# Altium schematic symbol library MasterLibrary_SCH.SchLib: 28 symbols (part 4 of 4)
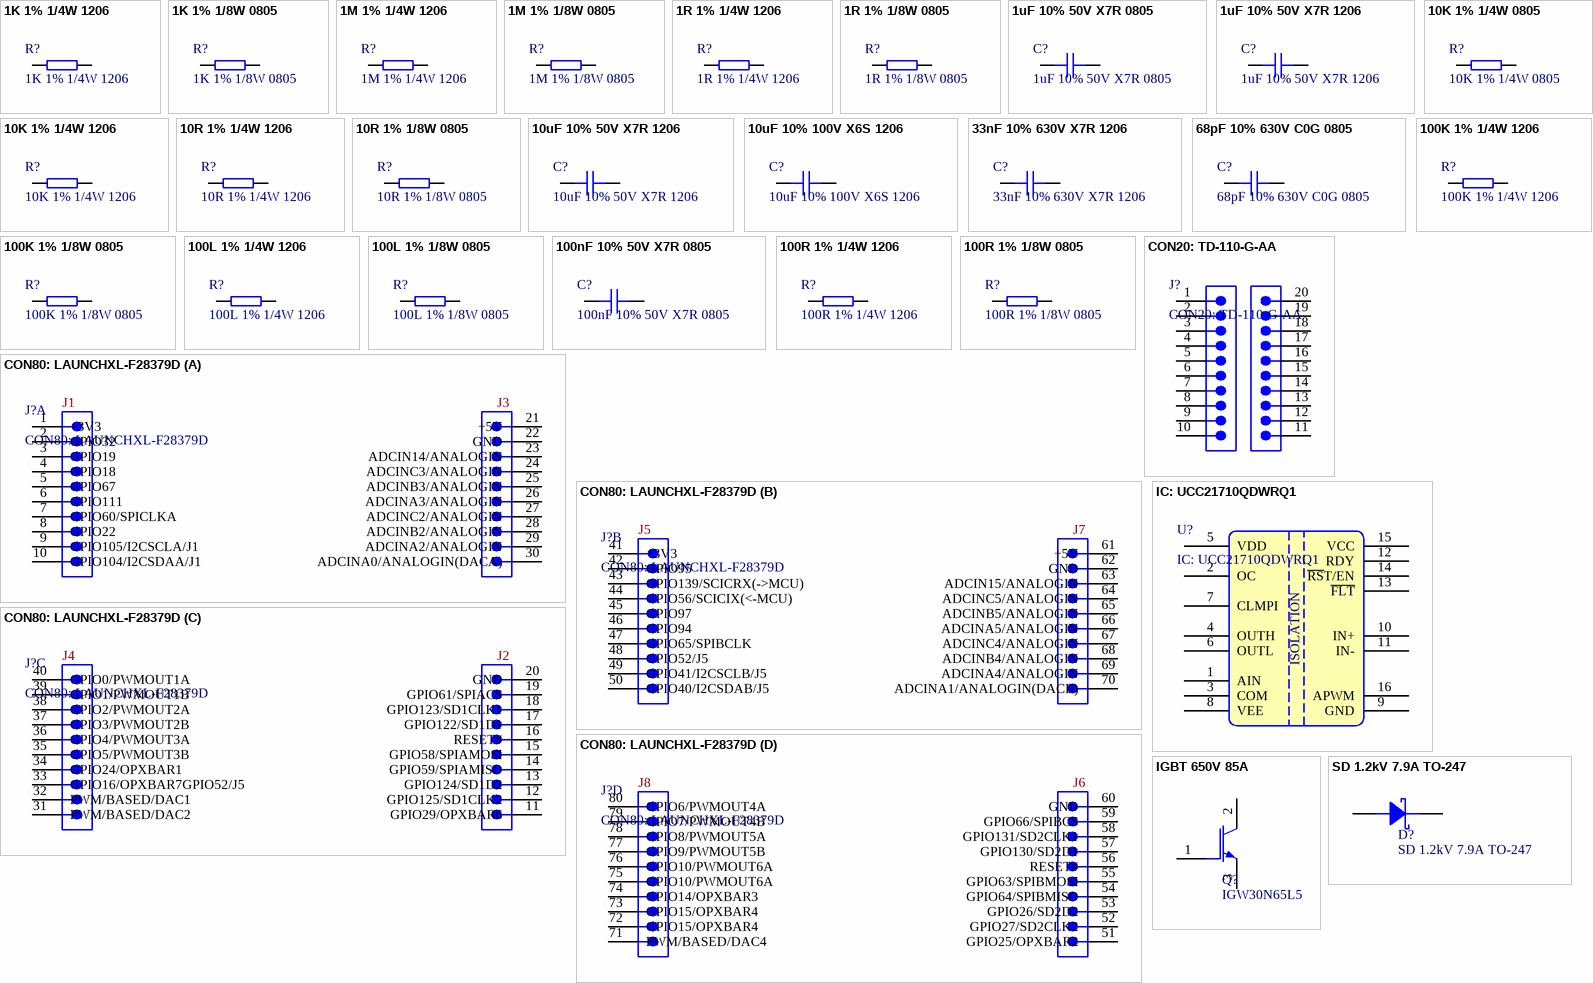
[diagram p3: symbols 1K 1% 1/4W 1206 to SD 1.2kV 7.9A TO-247]

## 100R 1% 1/4W 1206
designator R?
Res Thick Film 1206 100 Ohm 1% 0.25W(1/4W) ±100ppm/C Pad SMD T/R Automotive AEC-Q200; Manufacturer: Stackpole Electronics; Manufacturer Part Number: RMCF1206FT100R; Max Power Dissipation: 125mW; Value: 100Ω; Temperature Coefficient: 100ppm/°C; Voltage Rating: 150V; Supplier: Avnet; Supplier Part Number: RMCF1206FT100R; RoHS: Compliant; Category: Chip SMD Resistors; Stock: 3420000; Pricing: 5000=0.00245, 10000=0.00241, 20000=0.00238, 40000=0.00234, 80000=0.0023 (USD); Case/Package: 1206; Case Code (Imperial): 1206; Case Code (Metric): 3216; China RoHS: Non-Compliant; Composition: Thick Film; Contact Plating: Tin; Depth: 1.25mm; Features: Automotive AEC-Q200; Height: 500µm; Lead Free: Lead Free; Length: 2mm; Lifecycle Status: Production; Max Operating Temperature: 155°C; Military Standard: Not; Min Operating Temperature: -55°C; Mounting Technology: Surface Mount; Number of Terminals: 2; Number of Terminations: 2; Packaging: Cut Tape (CT); Power Dissipation: 125mW; Power Rating: 125mW; Radiation Hardening: No; REACH SVHC: Yes; Schedule B: 8533210045, 8533210045|8533210045, 8533210045|8533210045|8533210045, 8533210045|8533210045|8533210045|8533210045; Tolerance: 1%; Width: 1.25mm; Working Voltage: 150V; ComponentLink1URL: https://datasheet.octopart.com:443/RMCF0805FT10K0-Stackpole-Electronics-datasheet-182148065.pdf?src-supplier=IHS; ComponentLink1Description: https://datasheet.octopart.com:443/RMCF0805FT10K0-Stackpole-Electronics-datasheet-182148065.pdf?src-supplier=IHS; ComponentLink2URL: https://datasheet.octopart.com:443/RMCF0805FT10K0-Stackpole-Electronics-datasheet-12534581.pdf?src-supplier=Upverter; ComponentLink2Description: https://datasheet.octopart.com:443/RMCF0805FT10K0-Stackpole-Electronics-datasheet-12534581.pdf?src-supplier=Upverter; ComponentLink3URL: https://datasheet.octopart.com:443/RMCF0805FT10K0-Stackpole-Electronics-datasheet-28504820.pdf?src-supplier=Upverter; ComponentLink3Description: https://datasheet.octopart.com:443/RMCF0805FT10K0-Stackpole-Electronics-datasheet-28504820.pdf?src-supplier=Upverter; ComponentLink4URL: https://datasheet.octopart.com:443/RMCF0805FT10K0-Stackpole-Electronics-datasheet-12510902.pdf?src-supplier=Upverter; ComponentLink4Description: https://datasheet.octopart.com:443/RMCF0805FT10K0-Stackpole-Electronics-datasheet-12510902.pdf?src-supplier=Upverter; ComponentLink5URL: https://datasheet.octopart.com:443/RMCF0805FT10K0-Stackpole-Electronics-datasheet-141193804.pdf?src-supplier=Stackpole+Electronics; ComponentLink5Description: https://datasheet.octopart.com:443/RMCF0805FT10K0-Stackpole-Electronics-datasheet-141193804.pdf?src-supplier=Stackpole+Electronics; ComponentLink6URL: https://datasheet.octopart.com:443/RMCF0805FT10K0-Stackpole-Electronics-datasheet-62091608.pdf?src-supplier=Stackpole+Electronics; ComponentLink6Description: https://datasheet.octopart.com:443/RMCF0805FT10K0-Stackpole-Electronics-datasheet-62091608.pdf?src-supplier=Stackpole+Electronics; ComponentLink7URL: https://datasheet.octopart.com:443/RMCF0805FT10K0-Stackpole-Electronics-datasheet-10788263.pdf?src-supplier=Stackpole+Electronics; ComponentLink7Description: https://datasheet.octopart.com:443/RMCF0805FT10K0-Stackpole-Electronics-datasheet-10788263.pdf?src-supplier=Stackpole+Electronics; ComponentLink8URL: https://datasheet.octopart.com:443/RMCF0805FT10K0-Stackpole-Electronics-datasheet-154799224.pdf?src-supplier=Master+Electronics; ComponentLink8Description: https://datasheet.octopart.com:443/RMCF0805FT10K0-Stackpole-Electronics-datasheet-154799224.pdf?src-supplier=Master+Electronics; ComponentLink9URL: https://datasheet.octopart.com:443/RMCF0805FT10K0-Stackpole-Electronics-datasheet-11546843.pdf?src-supplier=Arrow+Electronics; ComponentLink9Description: https://datasheet.octopart.com:443/RMCF0805FT10K0-Stackpole-Electronics-datasheet-11546843.pdf?src-supplier=Arrow+Electronics; ComponentLink10URL: https://datasheet.octopart.com:443/RMCF0805FT10K0-Stackpole-Electronics-datasheet-11547379.pdf?src-supplier=Future+Electronics; ComponentLink10Description: https://datasheet.octopart.com:443/RMCF0805FT10K0-Stackpole-Electronics-datasheet-11547379.pdf?src-supplier=Future+Electronics; ComponentLink11URL: https://datasheet.octopart.com:443/RMCF0805FT10K0-Stackpole-Electronics-datasheet-8359789.pdf?src-supplier=Future+Electronics; ComponentLink11Description: https://datasheet.octopart.com:443/RMCF0805FT10K0-Stackpole-Electronics-datasheet-8359789.pdf?src-supplier=Future+Electronics; ComponentLink12URL: https://datasheet.octopart.com:443/RMCF0805FT10K0-Stackpole-Electronics-datasheet-8324226.pdf?src-supplier=Future+Electronics; ComponentLink12Description: https://datasheet.octopart.com:443/RMCF0805FT10K0-Stackpole-Electronics-datasheet-8324226.pdf?src-supplier=Future+Electronics; ComponentLink13URL: https://datasheet.octopart.com:443/RMCF0805FT10K0-Stackpole-Electronics-datasheet-8088878.pdf?src-supplier=Future+Electronics; ComponentLink13Description: https://datasheet.octopart.com:443/RMCF0805FT10K0-Stackpole-Electronics-datasheet-8088878.pdf?src-supplier=Future+Electronics; ComponentLink14URL: https://datasheet.octopart.com:443/RMCF0805FT10K0-Stackpole-Electronics-datasheet-5313682.pdf?src-supplier=Future+Electronics; ComponentLink14Description: https://datasheet.octopart.com:443/RMCF0805FT10K0-Stackpole-Electronics-datasheet-5313682.pdf?src-supplier=Future+Electronics; ComponentLink15URL: http://sigma.octopart.com:80/15940719/materials_sheet/Stackpole-Electronics-RMCF0805FT10K0.pdf?src-supplier=Compliance+Statements; ComponentLink15Description: http://sigma.octopart.com:80/15940719/materials_sheet/Stackpole-Electronics-RMCF0805FT10K0.pdf?src-supplier=Compliance+Statements; ComponentLink16URL: http://sigma.octopart.com:80/141158211/reach_statement/Stackpole-Electronics-RMCF0805FT10K0.pdf?src-supplier=Compliance+Statements; ComponentLink16Description: http://sigma.octopart.com:80/141158211/reach_statement/Stackpole-Electronics-RMCF0805FT10K0.pdf?src-supplier=Compliance+Statements; ComponentLink17URL: http://sigma.octopart.com:80/141158212/rohs_statement/Stackpole-Electronics-RMCF0805FT10K0.pdf?src-supplier=Compliance+Statements; ComponentLink17Description: http://sigma.octopart.com:80/141158212/rohs_statement/Stackpole-Electronics-RMCF0805FT10K0.pdf?src-supplier=Compliance+Statements; ComponentLink18URL: https://datasheet.octopart.com:443/RMCF1206FT10K0-Stackpole-Electronics-datasheet-182148065.pdf?src-supplier=IHS; ComponentLink18Description: https://datasheet.octopart.com:443/RMCF1206FT10K0-Stackpole-Electronics-datasheet-182148065.pdf?src-supplier=IHS; ComponentLink19URL: https://datasheet.octopart.com:443/RMCF1206FT10K0-Stackpole-Electronics-datasheet-141193804.pdf?src-supplier=Master+Electronics; ComponentLink19Description: https://datasheet.octopart.com:443/RMCF1206FT10K0-Stackpole-Electronics-datasheet-141193804.pdf?src-supplier=Master+Electronics; ComponentLink20URL: https://datasheet.octopart.com:443/RMCF1206FT10K0-Stackpole-Electronics-datasheet-189104163.pdf?src-supplier=Master+Electronics; ComponentLink20Description: https://datasheet.octopart.com:443/RMCF1206FT10K0-Stackpole-Electronics-datasheet-189104163.pdf?src-supplier=Master+Electronics; ComponentLink21URL: https://datasheet.octopart.com:443/RMCF1206FT10K0-Stackpole-Electronics-datasheet-116606903.pdf?src-supplier=Master+Electronics; ComponentLink21Description: https://datasheet.octopart.com:443/RMCF1206FT10K0-Stackpole-Electronics-datasheet-116606903.pdf?src-supplier=Master+Electronics; ComponentLink22URL: https://datasheet.octopart.com:443/RMCF1206FT10K0-Stackpole-Electronics-datasheet-62091608.pdf?src-supplier=Upverter; ComponentLink22Description: https://datasheet.octopart.com:443/RMCF1206FT10K0-Stackpole-Electronics-datasheet-62091608.pdf?src-supplier=Upverter; ComponentLink23URL: https://datasheet.octopart.com:443/RMCF1206FT10K0-Stackpole-Electronics-datasheet-28504820.pdf?src-supplier=Upverter; ComponentLink23Description: https://datasheet.octopart.com:443/RMCF1206FT10K0-Stackpole-Electronics-datasheet-28504820.pdf?src-supplier=Upverter; ComponentLink24URL: https://datasheet.octopart.com:443/RMCF1206FT10K0-Stackpole-Electronics-datasheet-12534581.pdf?src-supplier=Stackpole+Electronics; ComponentLink24Description: https://datasheet.octopart.com:443/RMCF1206FT10K0-Stackpole-Electronics-datasheet-12534581.pdf?src-supplier=Stackpole+Electronics; ComponentLink25URL: https://datasheet.octopart.com:443/RMCF1206FT10K0-Stackpole-Electronics-datasheet-10788263.pdf?src-supplier=Stackpole+Electronics; ComponentLink25Description: https://datasheet.octopart.com:443/RMCF1206FT10K0-Stackpole-Electronics-datasheet-10788263.pdf?src-supplier=Stackpole+Electronics; ComponentLink26URL: https://datasheet.octopart.com:443/RMCF1206FT10K0-Stackpole-Electronics-datasheet-11546843.pdf?src-supplier=Arrow+Electronics; ComponentLink26Description: https://datasheet.octopart.com:443/RMCF1206FT10K0-Stackpole-Electronics-datasheet-11546843.pdf?src-supplier=Arrow+Electronics; ComponentLink27URL: https://datasheet.octopart.com:443/RMCF1206FT10K0-Stackpole-Electronics-datasheet-11547379.pdf?src-supplier=Future+Electronics; ComponentLink27Description: https://datasheet.octopart.com:443/RMCF1206FT10K0-Stackpole-Electronics-datasheet-11547379.pdf?src-supplier=Future+Electronics; ComponentLink28URL: https://datasheet.octopart.com:443/RMCF1206FT10K0-Stackpole-Electronics-datasheet-8359789.pdf?src-supplier=Future+Electronics; ComponentLink28Description: https://datasheet.octopart.com:443/RMCF1206FT10K0-Stackpole-Electronics-datasheet-8359789.pdf?src-supplier=Future+Electronics; ComponentLink29URL: https://datasheet.octopart.com:443/RMCF1206FT10K0-Stackpole-Electronics-datasheet-8324226.pdf?src-supplier=Future+Electronics; ComponentLink29Description: https://datasheet.octopart.com:443/RMCF1206FT10K0-Stackpole-Electronics-datasheet-8324226.pdf?src-supplier=Future+Electronics; ComponentLink30URL: http://sigma.octopart.com:80/15940719/materials_sheet/Stackpole-Electronics-RMCF1206FT10K0.pdf?src-supplier=Compliance+Statements; ComponentLink30Description: http://sigma.octopart.com:80/15940719/materials_sheet/Stackpole-Electronics-RMCF1206FT10K0.pdf?src-supplier=Compliance+Statements; ComponentLink31URL: http://sigma.octopart.com:80/141158212/rohs_statement/Stackpole-Electronics-RMCF1206FT10K0.pdf?src-supplier=Compliance+Statements; ComponentLink31Description: http://sigma.octopart.com:80/141158212/rohs_statement/Stackpole-Electronics-RMCF1206FT10K0.pdf?src-supplier=Compliance+Statements; ComponentLink32URL: http://sigma.octopart.com:80/141158211/reach_statement/Stackpole-Electronics-RMCF1206FT10K0.pdf?src-supplier=Compliance+Statements; ComponentLink32Description: http://sigma.octopart.com:80/141158211/reach_statement/Stackpole-Electronics-RMCF1206FT10K0.pdf?src-supplier=Compliance+Statements
footprint RESC3116X06N
pins: 1, 2

## 100R 1% 1/8W 0805
designator R?
Res Thick Film 0805 100 Ohm 1% 0.125W ±100ppm/°C Molded SMD Paper T/R; Manufacturer: Stackpole Electronics; Manufacturer Part Number: RMCF0805FT100R; Max Power Dissipation: 125mW; Value: 100Ω; Voltage Rating: 150V; Supplier: Avnet; Supplier Part Number: RMCF0805FT100R; RoHS: Compliant; Category: Chip SMD Resistors; Stock: 3420000; Pricing: 5000=0.00245, 10000=0.00241, 20000=0.00238, 40000=0.00234, 80000=0.0023 (USD); Case/Package: 0805; Case Code (Imperial): 0805; Case Code (Metric): 2012; China RoHS: Non-Compliant; Composition: Thick Film; Contact Plating: Tin; Depth: 1.25mm; Features: Automotive AEC-Q200; Height: 500µm; Lead Free: Lead Free; Length: 2mm; Lifecycle Status: Production; Max Operating Temperature: 155°C; Military Standard: Not; Min Operating Temperature: -55°C; Mounting Technology: Surface Mount; Number of Terminals: 2; Number of Terminations: 2; Packaging: Cut Tape (CT); Power Dissipation: 125mW; Power Rating: 125mW; Radiation Hardening: No; REACH SVHC: Yes; Schedule B: 8533210045, 8533210045|8533210045, 8533210045|8533210045|8533210045, 8533210045|8533210045|8533210045|8533210045; Temperature Coefficient: 100ppm/°C; Tolerance: 1%; Width: 1.25mm; Working Voltage: 150V; ComponentLink1URL: https://datasheet.octopart.com:443/RMCF0805FT10K0-Stackpole-Electronics-datasheet-182148065.pdf?src-supplier=IHS; ComponentLink1Description: https://datasheet.octopart.com:443/RMCF0805FT10K0-Stackpole-Electronics-datasheet-182148065.pdf?src-supplier=IHS; ComponentLink2URL: https://datasheet.octopart.com:443/RMCF0805FT10K0-Stackpole-Electronics-datasheet-12534581.pdf?src-supplier=Upverter; ComponentLink2Description: https://datasheet.octopart.com:443/RMCF0805FT10K0-Stackpole-Electronics-datasheet-12534581.pdf?src-supplier=Upverter; ComponentLink3URL: https://datasheet.octopart.com:443/RMCF0805FT10K0-Stackpole-Electronics-datasheet-28504820.pdf?src-supplier=Upverter; ComponentLink3Description: https://datasheet.octopart.com:443/RMCF0805FT10K0-Stackpole-Electronics-datasheet-28504820.pdf?src-supplier=Upverter; ComponentLink4URL: https://datasheet.octopart.com:443/RMCF0805FT10K0-Stackpole-Electronics-datasheet-12510902.pdf?src-supplier=Upverter; ComponentLink4Description: https://datasheet.octopart.com:443/RMCF0805FT10K0-Stackpole-Electronics-datasheet-12510902.pdf?src-supplier=Upverter; ComponentLink5URL: https://datasheet.octopart.com:443/RMCF0805FT10K0-Stackpole-Electronics-datasheet-141193804.pdf?src-supplier=Stackpole+Electronics; ComponentLink5Description: https://datasheet.octopart.com:443/RMCF0805FT10K0-Stackpole-Electronics-datasheet-141193804.pdf?src-supplier=Stackpole+Electronics; ComponentLink6URL: https://datasheet.octopart.com:443/RMCF0805FT10K0-Stackpole-Electronics-datasheet-62091608.pdf?src-supplier=Stackpole+Electronics; ComponentLink6Description: https://datasheet.octopart.com:443/RMCF0805FT10K0-Stackpole-Electronics-datasheet-62091608.pdf?src-supplier=Stackpole+Electronics; ComponentLink7URL: https://datasheet.octopart.com:443/RMCF0805FT10K0-Stackpole-Electronics-datasheet-10788263.pdf?src-supplier=Stackpole+Electronics; ComponentLink7Description: https://datasheet.octopart.com:443/RMCF0805FT10K0-Stackpole-Electronics-datasheet-10788263.pdf?src-supplier=Stackpole+Electronics; ComponentLink8URL: https://datasheet.octopart.com:443/RMCF0805FT10K0-Stackpole-Electronics-datasheet-154799224.pdf?src-supplier=Master+Electronics; ComponentLink8Description: https://datasheet.octopart.com:443/RMCF0805FT10K0-Stackpole-Electronics-datasheet-154799224.pdf?src-supplier=Master+Electronics; ComponentLink9URL: https://datasheet.octopart.com:443/RMCF0805FT10K0-Stackpole-Electronics-datasheet-11546843.pdf?src-supplier=Arrow+Electronics; ComponentLink9Description: https://datasheet.octopart.com:443/RMCF0805FT10K0-Stackpole-Electronics-datasheet-11546843.pdf?src-supplier=Arrow+Electronics; ComponentLink10URL: https://datasheet.octopart.com:443/RMCF0805FT10K0-Stackpole-Electronics-datasheet-11547379.pdf?src-supplier=Future+Electronics; ComponentLink10Description: https://datasheet.octopart.com:443/RMCF0805FT10K0-Stackpole-Electronics-datasheet-11547379.pdf?src-supplier=Future+Electronics; ComponentLink11URL: https://datasheet.octopart.com:443/RMCF0805FT10K0-Stackpole-Electronics-datasheet-8359789.pdf?src-supplier=Future+Electronics; ComponentLink11Description: https://datasheet.octopart.com:443/RMCF0805FT10K0-Stackpole-Electronics-datasheet-8359789.pdf?src-supplier=Future+Electronics; ComponentLink12URL: https://datasheet.octopart.com:443/RMCF0805FT10K0-Stackpole-Electronics-datasheet-8324226.pdf?src-supplier=Future+Electronics; ComponentLink12Description: https://datasheet.octopart.com:443/RMCF0805FT10K0-Stackpole-Electronics-datasheet-8324226.pdf?src-supplier=Future+Electronics; ComponentLink13URL: https://datasheet.octopart.com:443/RMCF0805FT10K0-Stackpole-Electronics-datasheet-8088878.pdf?src-supplier=Future+Electronics; ComponentLink13Description: https://datasheet.octopart.com:443/RMCF0805FT10K0-Stackpole-Electronics-datasheet-8088878.pdf?src-supplier=Future+Electronics; ComponentLink14URL: https://datasheet.octopart.com:443/RMCF0805FT10K0-Stackpole-Electronics-datasheet-5313682.pdf?src-supplier=Future+Electronics; ComponentLink14Description: https://datasheet.octopart.com:443/RMCF0805FT10K0-Stackpole-Electronics-datasheet-5313682.pdf?src-supplier=Future+Electronics; ComponentLink15URL: http://sigma.octopart.com:80/15940719/materials_sheet/Stackpole-Electronics-RMCF0805FT10K0.pdf?src-supplier=Compliance+Statements; ComponentLink15Description: http://sigma.octopart.com:80/15940719/materials_sheet/Stackpole-Electronics-RMCF0805FT10K0.pdf?src-supplier=Compliance+Statements; ComponentLink16URL: http://sigma.octopart.com:80/141158211/reach_statement/Stackpole-Electronics-RMCF0805FT10K0.pdf?src-supplier=Compliance+Statements; ComponentLink16Description: http://sigma.octopart.com:80/141158211/reach_statement/Stackpole-Electronics-RMCF0805FT10K0.pdf?src-supplier=Compliance+Statements; ComponentLink17URL: http://sigma.octopart.com:80/141158212/rohs_statement/Stackpole-Electronics-RMCF0805FT10K0.pdf?src-supplier=Compliance+Statements; ComponentLink17Description: http://sigma.octopart.com:80/141158212/rohs_statement/Stackpole-Electronics-RMCF0805FT10K0.pdf?src-supplier=Compliance+Statements
footprint RESC2012X05N
pins: 1, 2

## CON20: TD-110-G-AA
designator J?  (mechanical)
Pin Header, Precision Machined Terminal, Board-to-Board, 2.54 mm, 2 Rows, 20 Contacts, Through Hole; Manufacturer: Samtec; Manufacturer Lifecycle Status: PRODUCTION; Number of Contacts: 20; Supplier: DigiKey; Supplier Part Number: TD-110-G-AA-ND; Manufacturer Part Number: TD-110-G-AA; RoHS: Compliant; Category: Headers and Wire Housings; Stock: 586; Pricing: 1=4.66, 25=4.21, 50=3.92, 100=3.73, 500=2.96, 1000=2.70002, 2500=2.6604 (USD); Contact Material: Gold, Nickel; Contact Plating: Gold; Lifecycle Status: Production; Max Operating Temperature: 125°C; Min Operating Temperature: -55°C; Mounting Technology: Through Hole; Number of Rows: 2; REACH SVHC: No; Termination: Through Hole; ComponentLink1URL: https://datasheet.octopart.com:443/TD-110-G-AA-Samtec-datasheet-158277479.pdf?src-supplier=Upverter; ComponentLink1Description: https://datasheet.octopart.com:443/TD-110-G-AA-Samtec-datasheet-158277479.pdf?src-supplier=Upverter; ComponentLink2URL: https://sigma.octopart.com:443/138897476/technical_drawing/Samtec-TD-110-G-AA.pdf?src-supplier=Upverter; ComponentLink2Description: https://sigma.octopart.com:443/138897476/technical_drawing/Samtec-TD-110-G-AA.pdf?src-supplier=Upverter; ComponentLink3URL: https://datasheet.octopart.com:443/TD-110-G-AA-Samtec-datasheet-97310231.pdf?src-supplier=Samtec; ComponentLink3Description: https://datasheet.octopart.com:443/TD-110-G-AA-Samtec-datasheet-97310231.pdf?src-supplier=Samtec; ComponentLink4URL: https://datasheet.octopart.com:443/TD-110-G-AA-Samtec-datasheet-150856305.pdf?src-supplier=Sager+Electronics; ComponentLink4Description: https://datasheet.octopart.com:443/TD-110-G-AA-Samtec-datasheet-150856305.pdf?src-supplier=Sager+Electronics; ComponentLink5URL: https://datasheet.octopart.com:443/TD-110-G-AA-Samtec-datasheet-129019458.pdf?src-supplier=Sager+Electronics; ComponentLink5Description: https://datasheet.octopart.com:443/TD-110-G-AA-Samtec-datasheet-129019458.pdf?src-supplier=Sager+Electronics; ComponentLink6URL: https://datasheet.octopart.com:443/TD-110-G-AA-Samtec-datasheet-179090728.pdf?src-supplier=Sager+Electronics; ComponentLink6Description: https://datasheet.octopart.com:443/TD-110-G-AA-Samtec-datasheet-179090728.pdf?src-supplier=Sager+Electronics; ComponentLink7URL: https://datasheet.octopart.com:443/TD-110-G-AA-Samtec-datasheet-41643126.pdf?src-supplier=Farnell; ComponentLink7Description: https://datasheet.octopart.com:443/TD-110-G-AA-Samtec-datasheet-41643126.pdf?src-supplier=Farnell; ComponentLink8URL: https://datasheet.octopart.com:443/TD-110-G-AA-Samtec-datasheet-37173861.pdf?src-supplier=Farnell; ComponentLink8Description: https://datasheet.octopart.com:443/TD-110-G-AA-Samtec-datasheet-37173861.pdf?src-supplier=Farnell; ComponentLink9URL: https://datasheet.octopart.com:443/TD-110-G-AA-Samtec-datasheet-8466599.pdf?src-supplier=Farnell; ComponentLink9Description: https://datasheet.octopart.com:443/TD-110-G-AA-Samtec-datasheet-8466599.pdf?src-supplier=Farnell; ComponentLink10URL: https://datasheet.octopart.com:443/TD-110-G-AA-Samtec-datasheet-21214653.pdf?src-supplier=Newark; ComponentLink10Description: https://datasheet.octopart.com:443/TD-110-G-AA-Samtec-datasheet-21214653.pdf?src-supplier=Newark
footprint CON20: TD-110-G-AA (.100" DOUBLE ROW SCREW MACHINE T)
pins: 1, 2, 3, 4, 5, 6, 7, 8, 9, 10, 11 70, 12, 13, 14, 15, 16, 17, 18, 19, 20

## CON80: LAUNCHXL-F28379D
designator J?
F28379D LaunchPad™ development kit for C2000™ Delfino™ MCU; Manufacturer: Texas Instruments; Manufacturer Lifecycle Status: ACTIVE; Core Architecture: C2000; Number of Bits: 32; Supplier: DigiKey; Supplier Part Number: 296-46713-ND; Manufacturer Part Number: LAUNCHXL-F28379D; Category: DSPs - Digital Signal Processors; Pricing: 1=46.8 (USD); Lifecycle Status: Production; Pins: 0; REACH SVHC: No; ComponentLink1URL: https://octopart.com:443/opatz8j6/c1?t=_qCjX2Wo53PZarO6BjGz1pzxvZLeCrbbVJACmNqqTvR3TEBVwYoGW-DXq5l11NPCyEyQmG2wH9P15DbxEwR5ZZHsyk33RBSXwUdEtCa7jNxIhSrryjNLEF-Vgre1piZzQz56aD2MK6QuEQpUtDRfErQs-_Fz2k06mrjKwHn2nJAT_YV2HxfigPUyr5srGnEy9lLlrNqGpcCNex5yYxUMkQXiFlqqbITrV8bFvInxDQ88sUGODQNtS64O8hVEwNdGa20kbIjdoqOBoaE1JHzrO901WwG08850-S2bXz9NSqERxo83_Q49v-k_oL6cPW0CHjrP4NMWOrNhAcehFalWX6jDFn3RYJBbH4wBv6PGCMA2lz1wT9CaKpwnDvEQJ5WJVjDawH1R7TR419iNQ7OBATXWz7I&src-supplier=Texas+Instruments; ComponentLink1Description: https://octopart.com:443/opatz8j6/c1?t=_qCjX2Wo53PZarO6BjGz1pzxvZLeCrbbVJACmNqqTvR3TEBVwYoGW-DXq5l11NPCyEyQmG2wH9P15DbxEwR5ZZHsyk33RBSXwUdEtCa7jNxIhSrryjNLEF-Vgre1piZzQz56aD2MK6QuEQpUtDRfErQs-_Fz2k06mrjKwHn2nJAT_YV2HxfigPUyr5srGnEy9lLlrNqGpcCNex5yYxUMkQXiFlqqbITrV8bFvInxDQ88sUGODQNtS64O8hVEwNdGa20kbIjdoqOBoaE1JHzrO901WwG08850-S2bXz9NSqERxo83_Q49v-k_oL6cPW0CHjrP4NMWOrNhAcehFalWX6jDFn3RYJBbH4wBv6PGCMA2lz1wT9CaKpwnDvEQJ5WJVjDawH1R7TR419iNQ7OBATXWz7I&src-supplier=Texas+Instruments; ComponentLink2URL: https://datasheet.octopart.com:443/LAUNCHXL-F28379D-Texas-Instruments-datasheet-152741484.pdf?src-supplier=ODG+(Origin+Data+Global); ComponentLink2Description: https://datasheet.octopart.com:443/LAUNCHXL-F28379D-Texas-Instruments-datasheet-152741484.pdf?src-supplier=ODG+(Origin+Data+Global); ComponentLink3URL: https://datasheet.octopart.com:443/LAUNCHXL-F28379D-Texas-Instruments-datasheet-67294821.pdf?src-supplier=element14+APAC; ComponentLink3Description: https://datasheet.octopart.com:443/LAUNCHXL-F28379D-Texas-Instruments-datasheet-67294821.pdf?src-supplier=element14+APAC; ComponentLink4URL: https://datasheet.octopart.com:443/LAUNCHXL-F28379D-Texas-Instruments-datasheet-103777603.pdf?src-supplier=TME; ComponentLink4Description: https://datasheet.octopart.com:443/LAUNCHXL-F28379D-Texas-Instruments-datasheet-103777603.pdf?src-supplier=TME; ComponentLink5URL: http://sigma.octopart.com:80/reach_statement/Texas-Instruments-company-64.pdf?src-supplier=Compliance+Statements; ComponentLink5Description: http://sigma.octopart.com:80/reach_statement/Texas-Instruments-company-64.pdf?src-supplier=Compliance+Statements; ComponentLink6URL: http://sigma.octopart.com:80/conflict_mineral_statement/Texas-Instruments-company-63.pdf?src-supplier=Compliance+Statements; ComponentLink6Description: http://sigma.octopart.com:80/conflict_mineral_statement/Texas-Instruments-company-63.pdf?src-supplier=Compliance+Statements; ComponentLink7URL: https://octopart.com:443/opatz8j6/c1?t=vmM5mUkauSidLfiIfngj-A2eh6SjcyeYQ_18RxJ-XgRT5PFLOln341s3Da68ti8m6yMC8JyHE5YCQ8oxmljwW8O_iXgryuhhxmjCmpHtdr4VDwYtt48MgbKj-slNB3Nj0mMH04CuEmFmw_fUmAswlWbCu5ZMAg5-39dPO4IMZ0IkEkvJqqV3lhWtLIq7mSnDMHN61-x5vEZotwGXpDkhXVPdiQUwVwsuDPl99fprXnUSUtNA7saaZFRkXjg1cuiRBuIcQzdWjl70NXHJ-qE7RXDui7Y0LCAu6IeHkA&src-supplier=Compliance+Statements; ComponentLink7Description: https://octopart.com:443/opatz8j6/c1?t=vmM5mUkauSidLfiIfngj-A2eh6SjcyeYQ_18RxJ-XgRT5PFLOln341s3Da68ti8m6yMC8JyHE5YCQ8oxmljwW8O_iXgryuhhxmjCmpHtdr4VDwYtt48MgbKj-slNB3Nj0mMH04CuEmFmw_fUmAswlWbCu5ZMAg5-39dPO4IMZ0IkEkvJqqV3lhWtLIq7mSnDMHN61-x5vEZotwGXpDkhXVPdiQUwVwsuDPl99fprXnUSUtNA7saaZFRkXjg1cuiRBuIcQzdWjl70NXHJ-qE7RXDui7Y0LCAu6IeHkA&src-supplier=Compliance+Statements; Quantity: 4
footprint LAUNCHXL-F28379D
part A pins: 1 +3V3, 2 GPIO32, 3 GPIO19, 4 GPIO18, 5 GPIO67, 6 GPIO111, 7 GPIO60/SPICLKA, 8 GPIO22, 9 GPIO105/I2CSCLA/J1, 10 GPIO104/I2CSDAA/J1, 21 +5V, 22 GND, 23 ADCIN14/ANALOGIN, 24 ADCINC3/ANALOGIN, 25 ADCINB3/ANALOGIN, 26 ADCINA3/ANALOGIN, 27 ADCINC2/ANALOGIN, 28 ADCINB2/ANALOGIN, 29 ADCINA2/ANALOGIN, 30 ADCINA0/ANALOGIN(DACA)
part B pins: 41 +3V3, 42 GPIO95, 43 GPIO139/SCICRX(->MCU), 44 GPIO56/SCICIX(<-MCU), 45 GPIO97, 46 GPIO94, 47 GPIO65/SPIBCLK, 48 GPIO52/J5, 49 GPIO41/I2CSCLB/J5, 50 GPIO40/I2CSDAB/J5, 61 +5V, 62 GND, 63 ADCIN15/ANALOGIN, 64 ADCINC5/ANALOGIN, 65 ADCINB5/ANALOGIN, 66 ADCINA5/ANALOGIN, 67 ADCINC4/ANALOGIN, 68 ADCINB4/ANALOGIN, 69 ADCINA4/ANALOGIN, 70 ADCINA1/ANALOGIN(DACB)
part C pins: 11 GPIO29/OPXBAR6, 12 GPIO125/SD1CLK2, 13 GPIO124/SD1D2, 14 GPIO59/SPIAMISO, 15 GPIO58/SPIAMOSI, 16 RESET#, 17 GPIO122/SD1D1, 18 GPIO123/SD1CLK1, 19 GPIO61/SPIACS, 20 GND, 31 PWM/BASED/DAC2, 32 PWM/BASED/DAC1, 33 GPIO16/OPXBAR7GPIO52/J5, 34 GPIO24/OPXBAR1, 35 GPIO5/PWMOUT3B, 36 GPIO4/PWMOUT3A, 37 GPIO3/PWMOUT2B, 38 GPIO2/PWMOUT2A, 39 GPIO1/PWMOUT1B, 40 GPIO0/PWMOUT1A
part D pins: 51 GPIO25/OPXBAR2, 52 GPIO27/SD2CLK2, 53 GPIO26/SD2D2, 54 GPIO64/SPIBMISO, 55 GPIO63/SPIBMOSI, 56 RESET#, 57 GPIO130/SD2D1, 58 GPIO131/SD2CLK1, 59 GPIO66/SPIBCS, 60 GND, 71 PWM/BASED/DAC4, 72 GPIO15/OPXBAR4, 73 GPIO15/OPXBAR4, 74 GPIO14/OPXBAR3, 75 GPIO10/PWMOUT6A, 76 GPIO10/PWMOUT6A, 77 GPIO9/PWMOUT5B, 78 GPIO8/PWMOUT5A, 79 GPIO7/PWMOUT4B, 80 GPIO6/PWMOUT4A
part A text: J1; J3
part B text: J5; J7
part C text: J4; J2
part D text: J8; J6

## IC: UCC21710QDWRQ1
designator U?
Gate Driver Single Channel for SiC/IGBT 10A 5.7kV 16-Pin SOIC T/R; Manufacturer: Texas Instruments; Manufacturer Lifecycle Status: ACTIVE; Supplier: DigiKey; Supplier Part Number: 296-UCC21710QDWRQ1CT-ND; Manufacturer Part Number: UCC21710QDWRQ1; RoHS: Compliant; Category: Integrated Circuits (ICs); Stock: 2904; Pricing: 1=7,06, 10=5,443, 25=5,0392, 100=4,595, 250=4,38324, 500=4,2556, 1000=4,15057 (USD); Case/Package: SOIC; Height: 2.65mm; Length: 10.3mm; Lifecycle Status: Production; Pins: 16; Schedule B: 8542390000, 8542390000|8542390000|8542390000|8542390000|8542390000; Thickness: 2.35mm; Width: 7.5mm; ComponentLink1URL: https://octopart.com:443/opatz8j6/c1?t=2Ae8CYxUiKwwUnaAX1oXuDSPwO_i-MIfE4deJ_XvXtHVTVYVZx9tgFB0fYlzg1x4Sa1FF-SXVXU5tzE2ofxkzrGr1RLbzye29Caa-fQ0ONbIHExv9lM6c6k7X9PVt_IVgvBE_C6n-D2BVECotO-ctuGrZih5w-ukil919FlMD0qnLFwI1OTZtrTHd9y-8_dLh9JFKe0IM-hKQeF-gA00x0rc95AVO7XLhrrNps-hMPC4fMVTmdk_JUX9ambxvphSmuH9qLML26GYMMgQ3Yml-wiDg2USMR9Wdws-ZC-Hcutrtwa5BnM5chwDXC9-NOxHlBmk1zJEqMy2MURJlK19_PFoIfpMasCg-KFUNJdrYzD3H6Zmvyob5xjvNjRz-JVhWAt5jAg8iYMI&src-supplier=Texas+Instruments; ComponentLink1Description: https://octopart.com:443/opatz8j6/c1?t=2Ae8CYxUiKwwUnaAX1oXuDSPwO_i-MIfE4deJ_XvXtHVTVYVZx9tgFB0fYlzg1x4Sa1FF-SXVXU5tzE2ofxkzrGr1RLbzye29Caa-fQ0ONbIHExv9lM6c6k7X9PVt_IVgvBE_C6n-D2BVECotO-ctuGrZih5w-ukil919FlMD0qnLFwI1OTZtrTHd9y-8_dLh9JFKe0IM-hKQeF-gA00x0rc95AVO7XLhrrNps-hMPC4fMVTmdk_JUX9ambxvphSmuH9qLML26GYMMgQ3Yml-wiDg2USMR9Wdws-ZC-Hcutrtwa5BnM5chwDXC9-NOxHlBmk1zJEqMy2MURJlK19_PFoIfpMasCg-KFUNJdrYzD3H6Zmvyob5xjvNjRz-JVhWAt5jAg8iYMI&src-supplier=Texas+Instruments; ComponentLink2URL: https://datasheet.octopart.com:443/UCC21710QDWRQ1-Texas-Instruments-datasheet-184244563.pdf?src-supplier=LCSC; ComponentLink2Description: https://datasheet.octopart.com:443/UCC21710QDWRQ1-Texas-Instruments-datasheet-184244563.pdf?src-supplier=LCSC; ComponentLink3URL: http://sigma.octopart.com:80/reach_statement/Texas-Instruments-company-64.pdf?src-supplier=Compliance+Statements; ComponentLink3Description: http://sigma.octopart.com:80/reach_statement/Texas-Instruments-company-64.pdf?src-supplier=Compliance+Statements; ComponentLink4URL: http://sigma.octopart.com:80/conflict_mineral_statement/Texas-Instruments-company-63.pdf?src-supplier=Compliance+Statements; ComponentLink4Description: http://sigma.octopart.com:80/conflict_mineral_statement/Texas-Instruments-company-63.pdf?src-supplier=Compliance+Statements
footprint SOIC127P1030X265-16N (SOIC, 16-Leads, Body 10,30x7,50mm, Pitch 1,27mm, IPC Medium Density)
pins: 1 AIN, 2 OC, 3 COM, 4 OUTH, 5 VDD, 6 OUTL, 7 CLMPI, 8 VEE, 9 GND, 10 IN+, 11 IN-, 12 RDY, 13 ~{FLT}, 14 ~{RS}T/EN, 15 VCC, 16 APWM
text: ISOLATION

## IGBT 650V 85A
designator Q?, comment IGW30N65L5
650V, 85A, TO-247-3 Low VCE(sat) IGBT in TRENCHSTOP 5 technology; Manufacturer: Infineon; Manufacturer Part Number: IGW30N65L5XKSA1; Collector Emitter Saturation Voltage: 1.35V; Element Configuration: Single; Max Junction Temperature (Tj): 175°C; Max Power Dissipation: 227W; Number of Elements: 1; Switching Frequency: 50Hz; Turn-Off Delay Time: 308ns; Turn-On Delay Time: 33ns; Supplier: RS; Supplier Part Number: 2156634; RoHS: Compliant; Category: IGBTs; Stock: 190; Pricing: 5=25,762, 25=21,124, 50=19,582, 125=18,296, 250=16,994 (DKK); Case/Package: TO-247; China RoHS: Compliant; Collector Emitter Breakdown Voltage: 650V; Collector Emitter Voltage (VCEO): 650V; Continuous Collector Current: 85A; Export Control Classification Number (ECCN) Code: EAR99; Halogen Free: Halogen Free; Height: 25.5mm; Introduction Date: 2014-12-10; Lead Free: Lead Free; Lifecycle Status: Production; Max Collector Current: 85A; Max Operating Temperature: 175°C; Min Operating Temperature: -40°C; Mounting Technology: Through Hole; Pins: 3; Number of Terminals: 3; Package Quantity: 240; Power Dissipation: 227W; REACH SVHC: Yes; Schedule B: 8541290080|8541290080; ComponentLink1URL: https://datasheet.octopart.com:443/IGW30N65L5XKSA1-Infineon-datasheet-180062104.pdf?src-supplier=IHS; ComponentLink1Description: https://datasheet.octopart.com:443/IGW30N65L5XKSA1-Infineon-datasheet-180062104.pdf?src-supplier=IHS; ComponentLink2URL: https://datasheet.octopart.com:443/IGW30N65L5XKSA1-Infineon-datasheet-62294543.pdf?src-supplier=IHS; ComponentLink2Description: https://datasheet.octopart.com:443/IGW30N65L5XKSA1-Infineon-datasheet-62294543.pdf?src-supplier=IHS; ComponentLink3URL: http://sigma.octopart.com:80/conflict_mineral_statement/Infineon-company-51.pdf?src-supplier=Compliance+Statements; ComponentLink3Description: http://sigma.octopart.com:80/conflict_mineral_statement/Infineon-company-51.pdf?src-supplier=Compliance+Statements
footprint TO247P159X260-3 (Footprint not found)
pins: 1 GATE "Gate", 2 COLLECTOR "Collector", 3 EMITTER "Emitter"

## SD 1.2kV 7.9A TO-247
designator D?
L-series Gallium Oxide Schottky barrier diode from Novel Crystal Technology; Manufacturer Part Number: NCT-L; Manufacturer: Novel Crystal Technology
footprint SSTO247-3-NCT
pins: 1 GATE "Gate", 2 COLLECTOR "Collector", 3 EMITTER "Emitter"